# EAGLE library part MMPQ2907A (library TIparts)
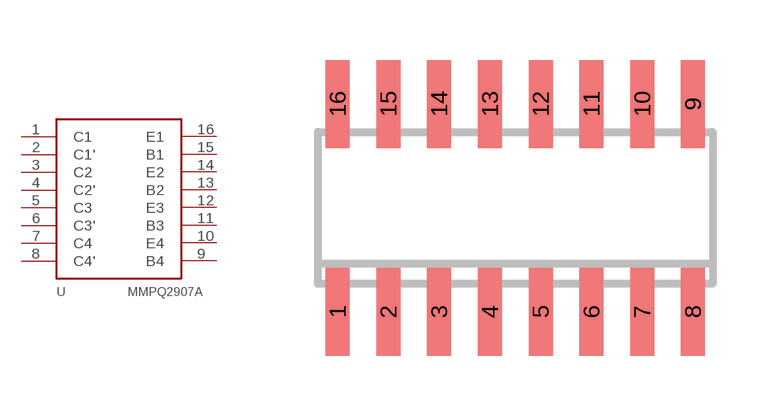
[diagram p6: symbol with the pads of SO1C-16; footprint SO1C-16]

Designator prefix -

## MMPQ2907A  [SO1C-16]
1  C1
2  C1'
3  C2
4  C2'
5  C3
6  C3'
7  C4
8  C4'
9  B4
10  E4
11  B3
12  E3
13  B2
14  E2
15  B1
16  E1

## Footprint SO1C-16 (pad centres in mm)
smd 0.6 x 2.2: 1 -4.445,-2.6; 2 -3.175,-2.6; 3 -1.905,-2.6; 4 -0.635,-2.6; 5 0.635,-2.6; 6 1.905,-2.6; 7 3.175,-2.6; 8 4.445,-2.6; 9 4.445,2.6; 10 3.175,2.6; 11 1.905,2.6; 12 0.635,2.6; 13 -0.635,2.6; 14 -1.905,2.6; 15 -3.175,2.6; 16 -4.445,2.6